# Altium schematic symbol library OSTOQ045450.SchLib: 1 symbol
Pins are listed as number, name and electrical type; pins without a type are passive.

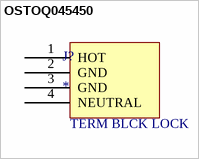
[diagram p0: symbol OSTOQ045450]

## OSTOQ045450
designator J?
footprint block
pins: 1 HOT (power), 2 GND (power), 3 GND (power), 4 NEUTRAL (power)
text: TERM BLCK LOCK